# Altium footprint library footprints.PcbLib: 68 footprints (part 2 of 5)
Each footprint in its own frame and in the unit in brackets; x right, y up, seen from the top. Pads: shape width x height; smd on the part's side, far side on the other; paste and mask are expansions set on the pad; w line width, h text height; cw(c..) or ccw(c..) is an arc to the next point about the centre after c.
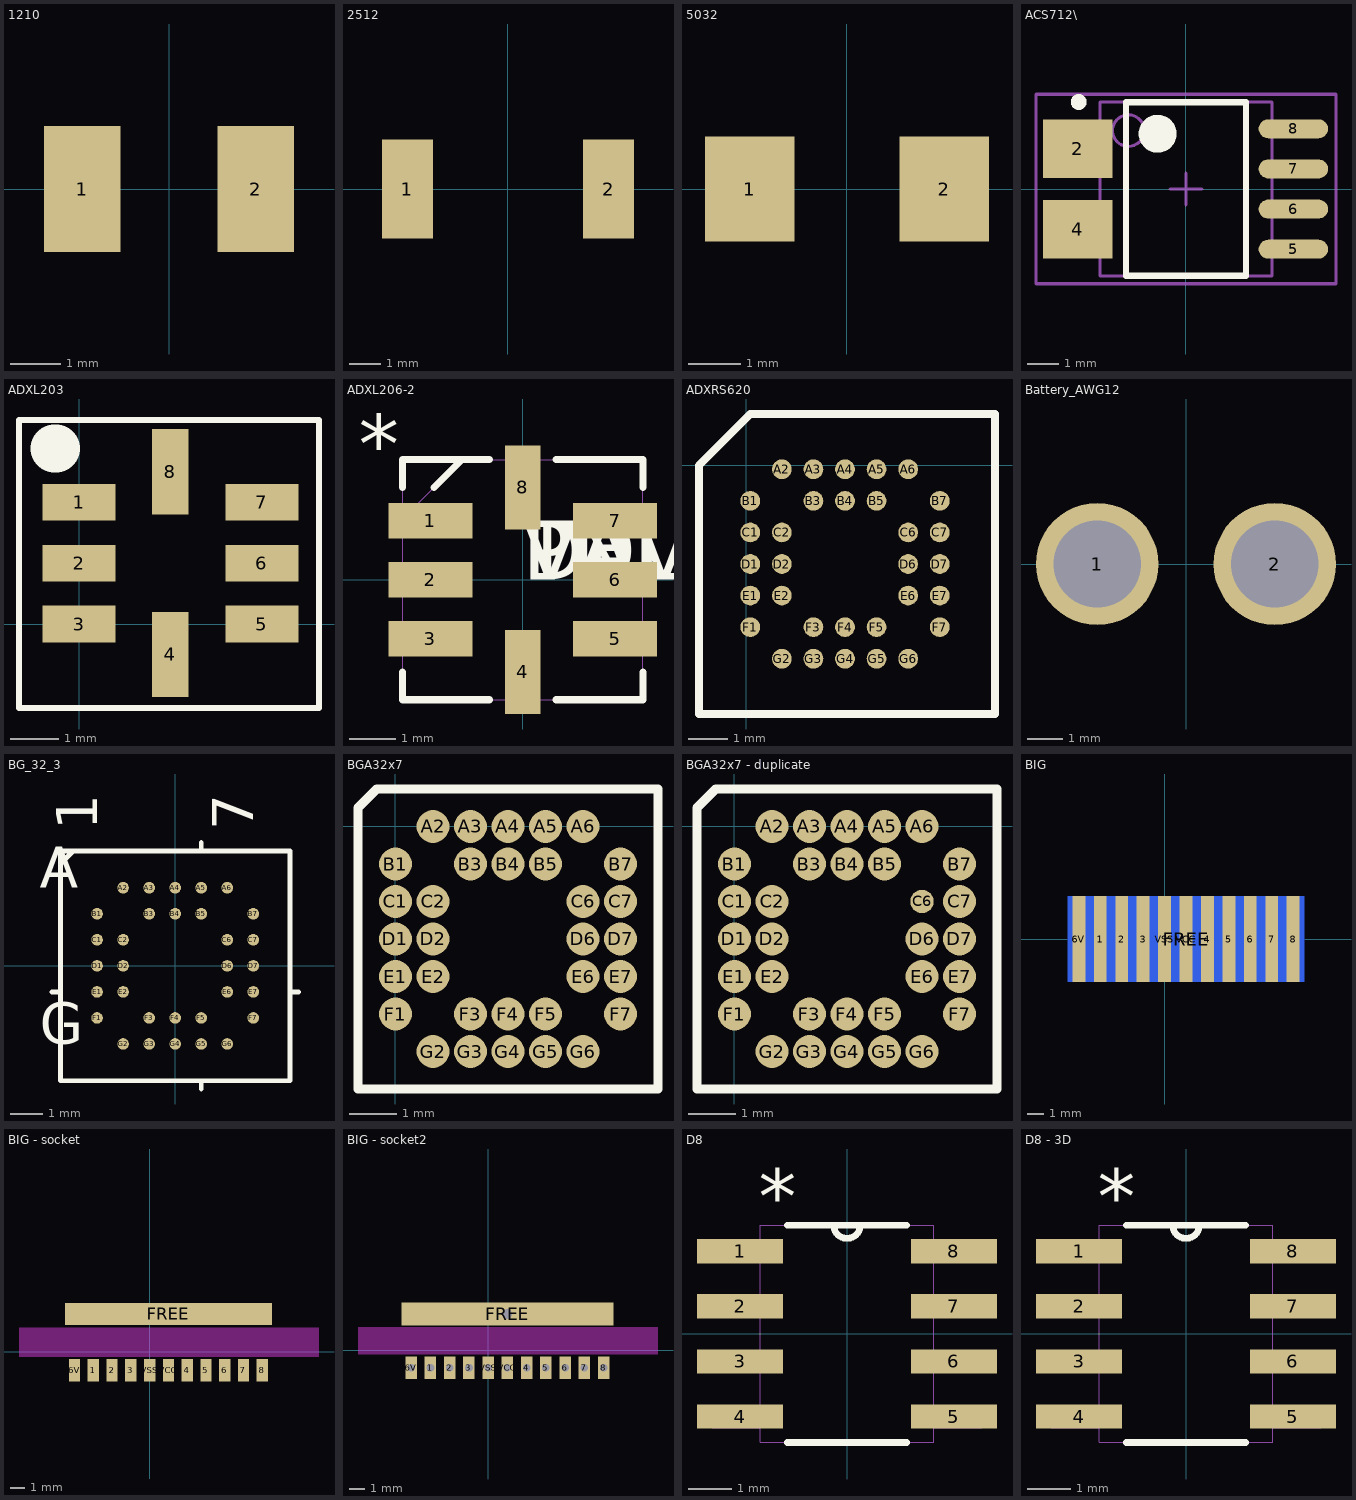
[diagram p1: the footprints below, top view; thin cyan lines are the x and y axes]

## 1210 [mm]
pads (2):
  rect 1.52x2.5 smd: 1(-1.715,0) 2(1.715,0)

## 2512 [mm]
pads (2):
  rect 1.65x3.2 smd: 1(-3.25,0) 2(3.25,0)

## 5032 [mm]
pads (2):
  rect 1.7x2 smd: 1(-1.85,0) 2(1.85,0)

## ACS712\ [mm] "8-Pin Small Outline Package 1.27 mm Pitch, IPC Medium Density"
height 2.03
pads (6):
  rect 2.2x1.854 smd: 2(-3.429,1.27) 4(-3.429,-1.27)
  oval 2.2x0.6 smd: 5(3.4,-1.905) 6(3.4,-0.635) 7(3.4,0.635) 8(3.4,1.905)
Top Overlay:
  circle w0.6: c-0.9,1.75 r0.3
  circle w0.25: c-3.4,2.755 r0.125
  lines w0.2: -1.9,-2.75 1.9,-2.75 1.9,2.75 -1.9,2.75 -1.9,-2.75
Mechanical 13:
  circle w0.1: c-1.825,1.85 r0.5
  lines w0.1: -2.725,-2.75 2.725,-2.75 2.725,2.75 -2.725,2.75 -2.725,-2.75
Mechanical 15:
  lines w0.1: -0.5,0 0.5,0 ; 0,-0.5 0,0.5 ; -4.75,-3 4.75,-3 4.75,3 -4.75,3 -4.75,-3
3D body: height 2.03, standoff 0, extent -2.725,-2.75 2.725,2.75

## ADXL203 [mil]
pads (8):
  rect 60x30 smd: 1(0,100) 2(0,50) 3(0,0) 5(150,0) 6(150,50) 7(150,100)
  rect 30x70 smd: 4(75,-25) 8(75,125)
Top Overlay:
  lines w5: -49.21,-68.9 -49.21,167.32 196.85,167.32 196.85,-68.9 -49.21,-68.9
  lines w39.37: -20,144 -19,144

## ADXL206-2 [mil]
pads (8):
  rect 71x30 smd: 1(-78,50) 2(-78,0) 3(-78,-50) 5(78,-50) 6(78,0) 7(78,50)
  rect 30x71 smd: 4(0,-78) 8(0,78)
Top Overlay:
  lines w6: -101.5,-78 -101.5,-101.5 -28,-101.5 ; -101.5,78 -101.5,101.5 -28,101.5 ; -75,78 -51.5,101.5 ; 28,-101.5 101.5,-101.5 101.5,-78 ; 28,101.5 101.5,101.5 101.5,78
  text "*" at -138.5,90 h50
  text "PN" at 0,0 h50
  text "DEV" at 0,0 h50
  text "VAL" at 0,0 h50
  text "TOL" at 0,0 h50
Mechanical 1:
  lines w0: -101.5,51.5 -51.5,101.5 ; -101.5,-101.5 101.5,-101.5 101.5,101.5 -101.5,101.5 -101.5,-101.5 ; -101.5,-65 -101.5,-35 -101.5,-65 ; -101.5,-15 -101.5,15 -101.5,-15 ; -101.5,35 -101.5,65 -101.5,35 ; -15,-101.5 15,-101.5 -15,-101.5 ; -15,101.5 15,101.5 -15,101.5 ; 101.5,-65 101.5,-35 101.5,-65 ; 101.5,-15 101.5,15 101.5,-15 ; 101.5,35 101.5,65 101.5,35
  text "*" at -138.5,90 h50
  text "RefDes2" at 0,0 h50

## ADXRS620 [mm]
pads (32):
  round 0.5 smd: A2(0.9,-0.1) A3(1.7,-0.1) A4(2.5,-0.1) A5(3.3,-0.1) A6(4.1,-0.1) B1(0.1,-0.9) B3(1.7,-0.9) B4(2.5,-0.9) B5(3.3,-0.9) B7(4.9,-0.9) C1(0.1,-1.7) C2(0.9,-1.7) C6(4.1,-1.7) C7(4.9,-1.7) D1(0.1,-2.5) D2(0.9,-2.5) D6(4.1,-2.5) D7(4.9,-2.5) E1(0.1,-3.3) E2(0.9,-3.3) E6(4.1,-3.3) E7(4.9,-3.3) F1(0.1,-4.1) F3(1.7,-4.1) F4(2.5,-4.1) F5(3.3,-4.1) F7(4.9,-4.1) G2(0.9,-4.9) G3(1.7,-4.9) G4(2.5,-4.9) G5(3.3,-4.9) G6(4.1,-4.9)
Top Overlay:
  lines w0.2: -1.2,-6.3 6.3,-6.3 6.3,1.3 0.1,1.3 -1.2,0 -1.2,-6.3

## Battery_AWG12 [mm]
pads (2):
  round 3.5 hole 2.5: 1(-2.54,0) 2(2.54,0)

## BG_32_3 [mil]
pads (32):
  round 14 smd: A2(-62.99,94.49) A3(-31.5,94.49) A4(0,94.49) A5(31.5,94.49) A6(62.99,94.49) B1(-94.49,62.99) B3(-31.5,62.99) B4(0,62.99) B5(31.5,62.99) B7(94.49,62.99) C1(-94.49,31.5) C2(-62.99,31.5) C6(62.99,31.5) C7(94.49,31.5) D1(-94.49,0) D2(-62.99,0) D6(62.99,0) D7(94.49,0) E1(-94.49,-31.5) E2(-62.99,-31.5) E6(62.99,-31.5) E7(94.49,-31.5) F1(-94.49,-62.99) F3(-31.5,-62.99) F4(0,-62.99) F5(31.5,-62.99) F7(94.49,-62.99) G2(-62.99,-94.49) G3(-31.5,-94.49) G4(0,-94.49) G5(31.5,-94.49) G6(62.99,-94.49)
Top Overlay:
  lines w6: -149,-31.5 -139,-31.5 ; -139,123.25 -123.25,139 ; 31.5,-149 31.5,-139 ; 31.5,139 31.5,149 ; 139,-31.5 149,-31.5 ; -139,-139 -139,139 139,139 139,-139 -139,-139
  text "7" at 94.49,164 h50
  text "1" at -94.49,164 h50
  text "G" at -164,-94.49 h50
  text "A" at -164,94.49 h50
Mechanical 1:
  lines w0: -139,123.25 -123.25,139 ; -139,-139 -139,139 139,139 139,-139 -139,-139
  text "7" at 94.49,164 h50
  text "1" at -94.49,164 h50
  text "G" at -164,-94.49 h50
  text "A" at -164,94.49 h50

## BGA32x7 [mm]
pads (32):
  round 0.7 smd: A2(0.8,0) A3(1.6,0) A4(2.4,0) A5(3.2,0) A6(4,0) B1(0,-0.8) B3(1.6,-0.8) B4(2.4,-0.8) B5(3.2,-0.8) B7(4.8,-0.8) C1(0,-1.6) C2(0.8,-1.6) C6(4,-1.6) C7(4.8,-1.6) D1(0,-2.4) D2(0.8,-2.4) D6(4,-2.4) D7(4.8,-2.4) E1(0,-3.2) E2(0.8,-3.2) E6(4,-3.2) E7(4.8,-3.2) F1(0,-4) F3(1.6,-4) F4(2.4,-4) F5(3.2,-4) F7(4.8,-4) G2(0.8,-4.8) G3(1.6,-4.8) G4(2.4,-4.8) G5(3.2,-4.8) G6(4,-4.8)
Top Overlay:
  lines w0.2: -0.8,-5.6 5.6,-5.6 5.6,0.8 -0.4,0.8 -0.8,0.4 -0.8,-5.6

## BGA32x7 - duplicate [mm]
pads (32):
  round 0.7 smd: A2(0.8,0) A3(1.6,0) A4(2.4,0) A5(3.2,0) A6(4,0) B1(0,-0.8) B3(1.6,-0.8) B4(2.4,-0.8) B5(3.2,-0.8) B7(4.8,-0.8) C1(0,-1.6) C2(0.8,-1.6) C7(4.8,-1.6) D1(0,-2.4) D2(0.8,-2.4) D6(4,-2.4) D7(4.8,-2.4) E1(0,-3.2) E2(0.8,-3.2) E6(4,-3.2) E7(4.8,-3.2) F1(0,-4) F3(1.6,-4) F4(2.4,-4) F5(3.2,-4) F7(4.8,-4) G2(0.8,-4.8) G3(1.6,-4.8) G4(2.4,-4.8) G5(3.2,-4.8) G6(4,-4.8)
  round 0.5 smd: C6(4,-1.6)
Top Overlay:
  lines w0.2: -0.8,-5.6 5.6,-5.6 5.6,0.8 -0.4,0.8 -0.8,0.4 -0.8,-5.6

## BIG [mil]
pads (12):
  rect 30x200 smd: 1(-150,0) 2(-100,0) 3(-50,0) 4(100,0) 5(150,0) 6(200,0) 6V(-200,0) 7(250,0) 8(300,0) VCC(50,0) VSS(0,0)
  rect 551.18x200 smd far side: FREE(50,0)

## BIG - socket [mm]
pads (12):
  rect 0.762x1.5 smd: 1(-3.81,-1.27) 2(-2.54,-1.27) 3(-1.27,-1.27) 4(2.54,-1.27) 5(3.81,-1.27) 6(5.08,-1.27) 6V(-5.08,-1.27) 7(6.35,-1.27) 8(7.62,-1.27) VCC(1.27,-1.27) VSS(0,-1.27)
  rect 14x1.5 smd: FREE(1.27,2.54)
Keep-Out Layer:
  rectangle: -8.839,-0.381 11.459,1.619

## BIG - socket2 [mil]
pads (12):
  rect 30x59.06 hole 20: 1(-150,-46) 2(-100,-46) 3(-50,-46) 4(100,-46) 5(150,-46) 6(200,-46) 6V(-200,-46) 7(250,-46) 8(300,-46) VCC(50,-46) VSS(0,-46)
  rect 551.18x59.06 hole 25: FREE(50,94)
Keep-Out Layer:
  rectangle: -338.15,-11.06 441.3,59.8

## D8 [mil]
pads (8):
  rect 78x22 smd: 1(-97,75) 2(-97,25) 3(-97,-25) 4(-97,-75) 5(97,-75) 6(97,-25) 7(97,25) 8(97,75)
Top Overlay:
  lines w6: -54.08,-98.5 54.08,-98.5 ; -54.08,98.5 54.08,98.5 ; -12,98.5 ccw(c0,98.5) 12,98.5
  text "*" at -80,100 h50
Mechanical 1:
  lines w0: -12,98.5 ccw(c0,98.5) 12,98.5 ; -122,-85 -78.5,-85 -78.5,-65 -122,-65 -122,-85 ; -122,-35 -78.5,-35 -78.5,-15 -122,-15 -122,-35 ; -122,15 -78.5,15 -78.5,35 -122,35 -122,15 ; -122,65 -78.5,65 -78.5,85 -122,85 -122,65 ; -78.5,-98.5 -78.5,98.5 78.5,98.5 78.5,-98.5 -78.5,-98.5 ; 78.5,-85 122,-85 122,-65 78.5,-65 78.5,-85 ; 78.5,-35 122,-35 122,-15 78.5,-15 78.5,-35 ; 78.5,15 122,15 122,35 78.5,35 78.5,15 ; 78.5,65 122,65 122,85 78.5,85 78.5,65

## D8 - 3D [mil]
pads (8):
  rect 78x22 smd: 1(-97,75) 2(-97,25) 3(-97,-25) 4(-97,-75) 5(97,-75) 6(97,-25) 7(97,25) 8(97,75)
Top Overlay:
  lines w6: -54.08,-98.5 54.08,-98.5 ; -54.08,98.5 54.08,98.5 ; -12,98.5 ccw(c0,98.5) 12,98.5
  text "*" at -80,100 h50
Mechanical 1:
  lines w0: -12,98.5 ccw(c0,98.5) 12,98.5 ; -122,-85 -78.5,-85 -78.5,-65 -122,-65 -122,-85 ; -122,-35 -78.5,-35 -78.5,-15 -122,-15 -122,-35 ; -122,15 -78.5,15 -78.5,35 -122,35 -122,15 ; -122,65 -78.5,65 -78.5,85 -122,85 -122,65 ; -78.5,-98.5 -78.5,98.5 78.5,98.5 78.5,-98.5 -78.5,-98.5 ; 78.5,-85 122,-85 122,-65 78.5,-65 78.5,-85 ; 78.5,-35 122,-35 122,-15 78.5,-15 78.5,-35 ; 78.5,15 122,15 122,35 78.5,35 78.5,15 ; 78.5,65 122,65 122,85 78.5,85 78.5,65
3D body: height 63.98, standoff 0, extent -121.11,-96.46 115.11,96.45